# Altium footprint library C_ALU_D.PcbLib: 1 footprints
Each footprint in its own frame and in the unit in brackets; x right, y up, seen from the top. Pads: shape width x height; smd on the part's side, far side on the other; paste and mask are expansions set on the pad; w line width, h text height; cw(c..) or ccw(c..) is an arc to the next point about the centre after c.
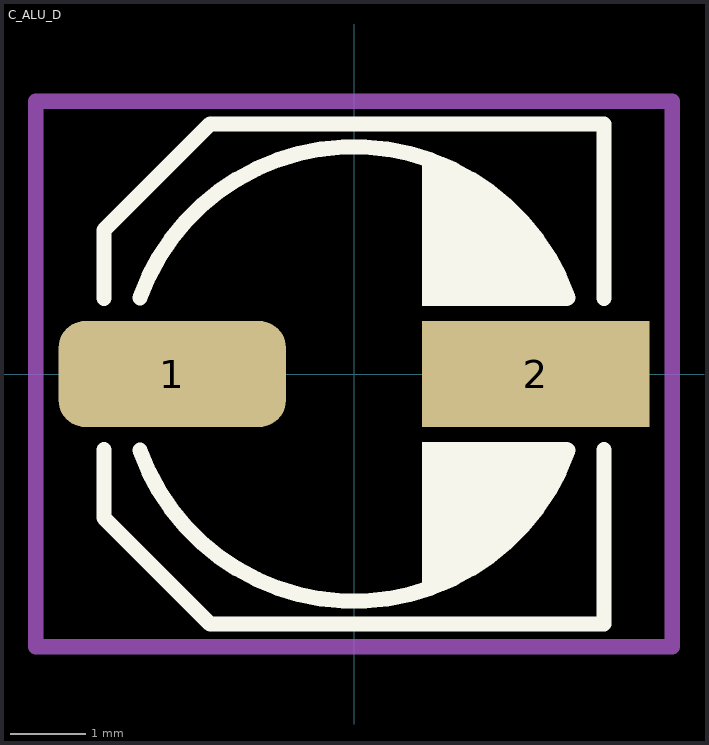
[diagram p0: the footprint, top view; thin cyan lines are the x and y axes]

## C_ALU_D [mm] "6.3mm x 5.8mm"
height 5.8
pads (2):
  rrect50% 3x1.4 smd: 1(-2.4,0)
  rect 3x1.4 smd: 2(2.4,0)
Top Overlay:
  region: 2.825,1.009 2.825,0.9 0.9,0.9 0.9,2.9 0.995,2.9 1.182,2.863 1.357,2.79 1.516,2.684 1.583,2.617 2.567,1.633 2.628,1.572 2.725,1.427 2.791,1.267 2.825,1.096
  region: 2.825,-1.009 2.825,-0.9 0.9,-0.9 0.9,-2.9 0.995,-2.9 1.182,-2.863 1.357,-2.79 1.516,-2.684 1.583,-2.617 2.567,-1.633 2.628,-1.572 2.725,-1.427 2.791,-1.267 2.825,-1.096
  lines w0.203: -3.3,-1 -3.3,-1.9 -1.9,-3.3 3.3,-3.3 3.3,-1 ; -3.3,1 -3.3,1.9 -1.9,3.3 -1.5,3.3 3.3,3.3 3.3,1 ; -2.825,-1.009 ccw(c0,0) 2.825,-1.009 ; -2.825,1.009 cw(c0,0) 2.825,1.009
Mechanical 15:
  lines w0.203: -4.2,-3.6 -4.2,3.6 4.2,3.6 4.2,-3.6 0,-3.6 -4.2,-3.6
3D body "Cap_SMT_Aluminum_D.STEP": height 5.41, standoff -0.01, extent -3.5,-3.3 3.5,3.3